# Altium schematic symbol library stm32l552_launchpad.SCHLIB: 95 symbols (part 1 of 2)
Pins are listed as number, name and electrical type; pins without a type are passive.

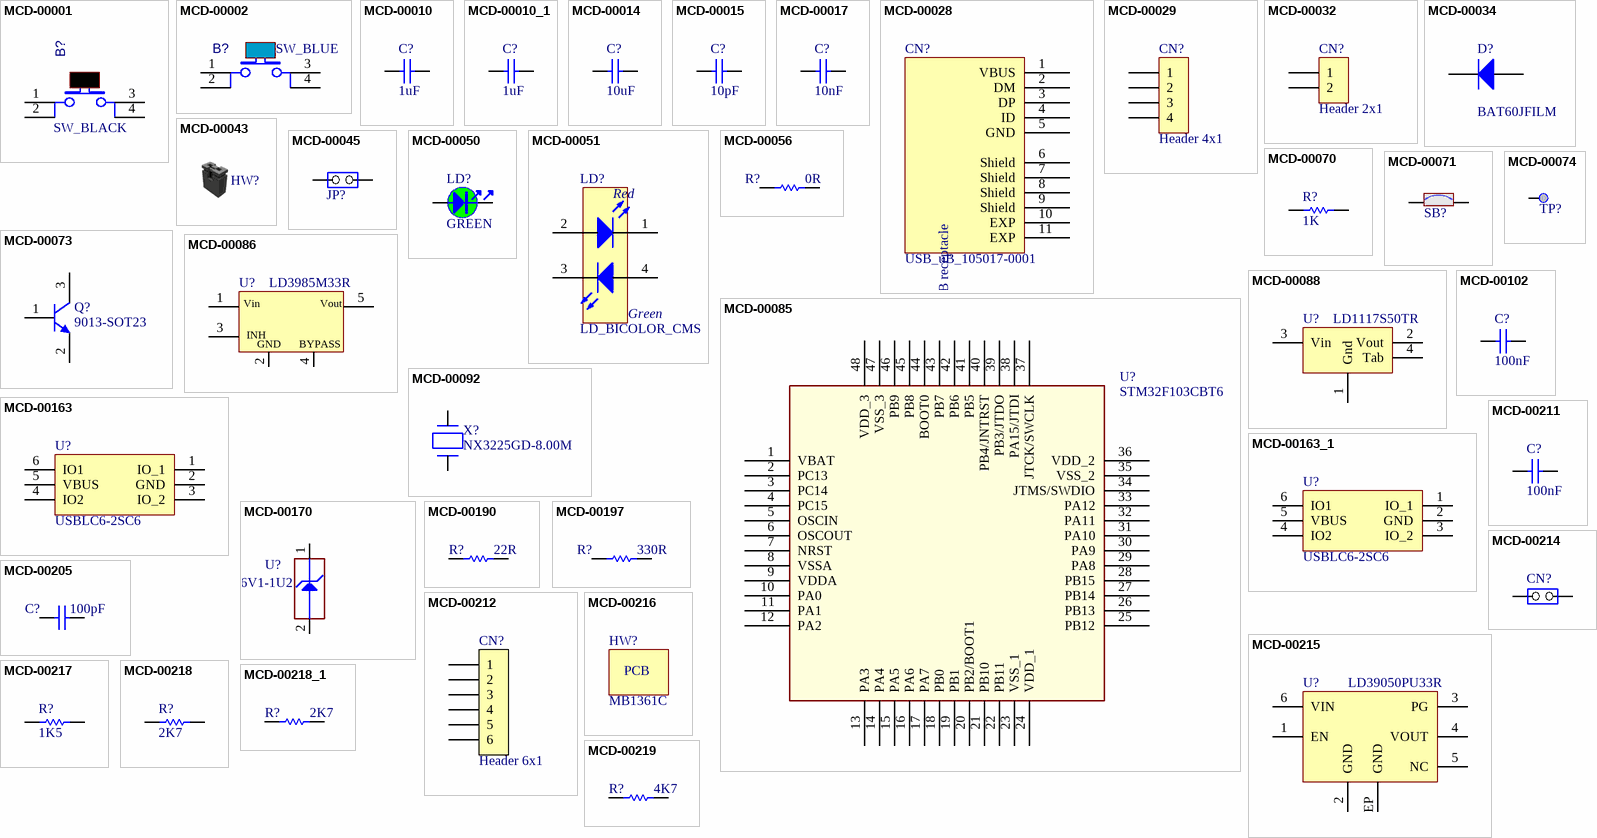
[diagram p0: symbols MCD-00001 to MCD-00219]

## MCD-00001
designator B?  value SW_BLACK
Non-Open Push-Button 0.1A 24V BLACK; Internal_Part_Number: MCD-00001; Manufacturer_Part_Number: TD0341X-G01-BLA; Manufacturer: WEALTHMETAL; Part_Type: Misc; Provided_By: Subcon; Initial_Board_Reference: MB1274; ECCN_US: n/a; ECCN_EU: n/a; ComponentLink1Description: Datasheet; Status: Released; ComponentLink1URL: http://tunmcdsvn.tun.st.com/Component_Datasheet_Library/Trunk/Misc/Wealthmetal_Tact-Switch_TD0341; Order_Code_Farnell: 535-930
footprint SWI_WEALTHMETAL_TD-0341_4P_BLACK
pins: 1, 2, 3, 4

## MCD-00002
designator B?  value SW_BLUE
Non-Open Push-Button 0.1A 24V BLUE; Internal_Part_Number: MCD-00002; Manufacturer_Part_Number: TD0341X-G01-BLU; Manufacturer: WEALTHMETAL; Part_Type: Misc; Provided_By: Subcon; Initial_Board_Reference: MB1274; ECCN_US: n/a; ECCN_EU: n/a; ComponentLink1Description: Datasheet; Status: Released; ComponentLink1URL: http://tunmcdsvn.tun.st.com/Component_Datasheet_Library/Trunk/Misc/Wealthmetal_Tact-Switch_TD0341; Order_Code_Farnell: 535-930
footprint SWI_WEALTHMETAL_TD-0341_4P_BLUE
pins: 1, 2, 3, 4

## MCD-00010
designator C?, comment value 1uF  (hidden comment: Capacitor)
Capacitor, MLCC, 1uF, 16V, X5R, 10%, 0603, T=0,8mm; Internal_Part_Number: MCD-00010; Manufacturer_Part_Number: CC0603KRX5R7BB105; Manufacturer: YAGEO; Provided_By: SUBCO; Status: Released; Part_Type: Capacitor; Package: C0603; ComponentLink1Description: Datasheet; ComponentLink1URL: http://tunmcdsvn.tun.st.com/Component_Datasheet_Library/Trunk/Capacitors/Yageo_Multilayer_capacitor_X5R_series_100pF_to_100uF
footprint C0603
pins: 1, 2

## MCD-00010_1
designator C?  value 1uF
Capacitor, MLCC, 1uF, 16V, X5R, 10%, 0603, T=0,8mm; Internal_Part_Number: MCD-00010; Manufacturer_Part_Number: CC0603KRX5R7BB105; Manufacturer: YAGEO; Provided_By: Subcon; Initial_Board_Reference: MB1274; ECCN_US: n/a; ECCN_EU: n/a; ComponentLink1Description: Datasheet; Status: Released; Part_Type: Capacitor; Package: C0603; ComponentLink1URL: http://tunmcdsvn.tun.st.com/Component_Datasheet_Library/Trunk/Capacitors/Yageo_Multilayer_capacitor_X5R_series_100pF_to_100uF
footprint C0603
pins: 1, 2

## MCD-00014
designator C?  value 10uF
Capacitor, MLCC, 10uF, 25V, X5R, 10%, 0805, T=0,85mm; Internal_Part_Number: MCD-00014; Manufacturer_Part_Number: CC0805KRX5R8BB106; Manufacturer: YAGEO; Provided_By: Subcon; Initial_Board_Reference: MB1274; ECCN_US: n/a; ECCN_EU: n/a; ComponentLink1Description: Datasheet; Status: Released; Part_Type: Capacitor; Package: C0805; ComponentLink1URL: http://tunmcdsvn.tun.st.com/Component_Datasheet_Library/Trunk/Capacitors/Yageo_Multilayer_capacitor_X5R_series_100pF_to_100uF
footprint C0805
pins: 1, 2

## MCD-00015
designator C?  value 10pF
Capacitor, MLCC, 10pF, 50V, NPO, 5%, 0402, T=0,5mm; Internal_Part_Number: MCD-00015; Manufacturer_Part_Number: CC0402JRNPO9BN100; Manufacturer: YAGEO; Provided_By: subcon; Initial_Board_Reference: MB1274; ECCN_US: n/a; ECCN_EU: n/a; ComponentLink1Description: Datasheet; Status: Released; Part_Type: Capacitor; Package: C0402; ComponentLink1URL: http://tunmcdsvn.tun.st.com/Component_Datasheet_Library/Trunk/Capacitors/Yageo_Capacitor_NP0_16V-to-50V
footprint C0402
pins: 1, 2

## MCD-00017
designator C?  value 10nF
Capacitor, MLCC, 10nF, 50V, X7R, 10%, 0603, T=0.8mm; Internal_Part_Number: MCD-00017; Manufacturer_Part_Number: CC0603KRX7R9BB103; Manufacturer: YAGEO; Provided_By: Subcon; Initial_Board_Reference: MB1274; ECCN_US: n/a; ECCN_EU: n/a; ComponentLink1Description: Datasheet; Status: Released; Part_Type: Capacitor; Package: C0603; ComponentLink1URL: http://tunmcdsvn.tun.st.com/Component_Datasheet_Library/Trunk/Capacitors/Yageo_Multilayer_Capacitor_X7R_series_100pF_to_22uF
footprint C0603
pins: 1, 2

## MCD-00028
designator CN?  value USB_uB_105017-0001
USB-MICRO-B, 0.65mm, RA, SMT, Bottom Mount,; Internal_Part_Number: MCD-00028; Manufacturer_Part_Number: 1050170001; Manufacturer: MOLEX; Part_Type: Connector; Provided_By: Subcon; Initial_Board_Reference: MB1274; ECCN_US: n/a; ECCN_EU: n/a; ComponentLink1Description: Datasheet; Status: Released; ComponentLink1URL: http://tunmcdsvn.tun.st.com/Component_Datasheet_Library/Trunk/Connectors/Molex_Connector-USB-microB_105017-0001
footprint CON_USBMICROB_MOLEX_105017-0001_H2P90
pins: 1 VBUS, 2 DM, 3 DP, 4 ID, 5 GND, 6 Shield, 7 Shield, 8 Shield, 9 Shield, 10 EXP, 11 EXP
text: USB_Micro-B receptacle

## MCD-00029
designator CN?, comment Header 4x1
Header, 4x1, 2,54mm, VR, TH, Height 5.84mm/2.54mm; Internal_Part_Number: MCD-00029; Part_Type: Connector; Manufacturer_Part_Number: TSW-104-07-x-S; Manufacturer: SAMTEC; Provided_By: SUBCO; Initial_Board_Reference: MB1274; Path: ws/MCD_ApplicationBoards/Lists/MCDPARTSdatabase; Item Type: Item; Value: Header 4x1; Status: Released; ComponentLink1Description: Datasheet; ComponentLink1URL: http://tunmcdsvn.tun.st.com/Component_Datasheet_Library/Trunk/Connectors/Samtec_TSW-HTSW-series
footprint CON_SAMTEC_TSW-104-07-G-S
pins: 1, 2, 3, 4

## MCD-00032
designator CN?  value Header 2x1
Header, 2x1, 2,54mm, VR, TH, Height 5.84mm/2.54mm; Internal_Part_Number: MCD-00032; Manufacturer_Part_Number: TSW-102-07-x-S; Manufacturer: SAMTEC; Part_Type: Connector; Provided_By: Subcon; Initial_Board_Reference: MB1274; ECCN_US: n/a; ECCN_EU: n/a; ComponentLink1Description: Datasheet; Status: Released; ComponentLink1URL: http://tunmcdsvn.tun.st.com/Component_Datasheet_Library/Trunk/Connectors/Samtec_TSW-HTSW-series
footprint CON_SAMTEC_TSW-102-07-G-S
pins: 1, 2

## MCD-00034
designator D?  value BAT60JFILM
BAT60JFILM; Internal_Part_Number: MCD-00034; Manufacturer: STMICROELECTRONICS; Part_Type: Diode; ECCN_US: EAR99; ECCN_EU: NEC; Provided_By: Subcon; Initial_Board_Reference: MB1274; Manufacturer_Part_Number: BAT60JFILM; ComponentLink1Description: Datasheet; Status: Released; ComponentLink1URL: http://tunmcdsvn.tun.st.com/Component_Datasheet_Library/Trunk/Diodes/STM_Diode_BAT60JFILM-SOD323
footprint DIO_SOD323
pins: 1 A, 2 K

## MCD-00043
designator HW?  (mechanical)
SHUNT 2.54mm BLACK; Internal_Part_Number: MCD-00043; Manufacturer_Part_Number: SNT-100-BK-G; Manufacturer: SAMTEC; Part_Type: Mechanical; Provided_By: Subcon; Initial_Board_Reference: MB1274; ECCN_US: n/a; ECCN_EU: n/a; ComponentLink1Description: Datasheet; Status: Released; ComponentLink1URL: http://tunmcdsvn.tun.st.com/Component_Datasheet_Library/Trunk/Connectors/Samtec_Shunt_Jumper_SNT100

## MCD-00045
designator JP?
Header, 2x1, 2,54mm, VR, TH, Height 5.84mm/2.54mm; Internal_Part_Number: MCD-00045; Manufacturer_Part_Number: TSW-102-07-x-S; Manufacturer: SAMTEC; Part_Type: Connector; Value: Shunt not fitted; Provided_By: Subcon; Initial_Board_Reference: MB1274; Remark: 3D KO: BZ: 40098; ECCN_US: n/a; ECCN_EU: n/a; ComponentLink1Description: Datasheet; Status: Footprint available; ComponentLink1URL: http://tunmcdsvn.tun.st.com/Component_Datasheet_Library/Trunk/Connectors/Samtec_TSW-HTSW-series
footprint CON_SAMTEC_TSW-102-07-G-S
pins: 1 COMMON, 2 NO

## MCD-00050
designator LD?  value GREEN
LED, Green, 0603; Internal_Part_Number: MCD-00050; Part_Type: Display; Manufacturer_Part_Number: 19-213SYGC/S530-E2/TR8; Manufacturer: EVERLIGHT; ECCN_US: EAR99; ECCN_EU: NEC; Provided_By: Subcon; Initial_Board_Reference: MB1274; Status: Released; ComponentLink1Description: Datasheet; Package: LED 0603; ComponentLink1URL: http://tunmcdsvn.tun.st.com/Component_Datasheet_Library/Trunk/Display/Everlight_SMD-LED-GREEN_19-213SYGC-S530-XX-TR8-v3.doc
footprint LED_0603_GREEN
pins: 1, 2
2 alternate drawings of the same symbol

## MCD-00051
designator LD?  value LD_BICOLOR_CMS
LED Bicolor; Internal_Part_Number: MCD-00051; Manufacturer_Part_Number: HSMF-A201-A00J1; Manufacturer: AVAGO TECHNOLOGIES; Alternate_Manufacturer_Part_Number: LE-RGW35280; Alternate_Manufacturer: EVERLUCK; Part_Type: Display; ECCN_US: EAR99; ECCN_EU: NEC; Provided_By: Subcon; Initial_Board_Reference: MB1274; ComponentLink1Description: Datasheet; Status: Released; ComponentLink1URL: http://tunmcdsvn.tun.st.com/Component_Datasheet_Library/Trunk/Display/Avago_LED-SMC_HSMx-A2xx-02Feb2012
footprint LED_BI-GR_HSMF-A201-A00J1
pins: 1 RED_cathode, 2 Red_anode, 3 YellowGreen_cathode, 4 YellowGreen_anode
text: Red; Green

## MCD-00056
designator R?  value 0R
Resistor,0R,0603,5%,1/10W; Internal_Part_Number: MCD-00056; Manufacturer_Part_Number: RC0603JR-070RL; Manufacturer: YAGEO; Provided_By: subcon; Initial_Board_Reference: MB1274; ECCN_US: n/a; ECCN_EU: n/a; ComponentLink1Description: Datasheet; Status: Released; Part_Type: Resistor; Package: R0603; ComponentLink1URL: http://tunmcdsvn.tun.st.com/Component_Datasheet_Library/Trunk/Resistors/Yageo_Resistor_RC0603-series
footprint R0603
pins: 1, 2

## MCD-00070
designator R?  value 1K
Resistor,1K,0603,1%,1/10W; Internal_Part_Number: MCD-00070; Manufacturer_Part_Number: RC0603FR-071KL; Manufacturer: YAGEO; Provided_By: Subcon; Initial_Board_Reference: MB1274; Status: Released; Part_Type: Resistor; ComponentLink1Description: Datasheet; ECCN_US: n/a; ECCN_EU: n/a; Package: R0603; ComponentLink1URL: http://tunmcdsvn.tun.st.com/Component_Datasheet_Library/Trunk/Resistors/Yageo_Resistor_RC0603-series
footprint R0603
pins: 1, 2

## MCD-00071
designator SB?
Solder Bridge ON; Internal_Part_Number: MCD-00071; Part_Type: Mechanical; Provided_By: Subcon; Initial_Board_Reference: MB1274; ECCN_US: n/a; ECCN_EU: n/a; Status: Released; ComponentLink1Description: Datasheet
footprint SOLDER-BRIDGE_R0603-0R
pins: 1, 2

## MCD-00073
designator Q?  value 9013-SOT23
NPN Bipolar Transistor; Internal_Part_Number: MCD-00073; Part_Type: IC; Manufacturer_Part_Number: BSR14; Manufacturer: NXP; ECCN_US: EAR99; ECCN_EU: NEC; Provided_By: Subcon; Initial_Board_Reference: MB1274; Revision: *; Status: Released; ComponentLink1Description: Datasheet; ComponentLink1URL: http://tunmcdsvn.tun.st.com/Component_Datasheet_Library/Trunk/IC/NXP_Transistor_BSR14
footprint NPN_SOT23
pins: 1 B, 2 E, 3 C

## MCD-00074
designator TP?  (no BOM)
Test Point 1mm; Internal_Part_Number: MCD-00074; Part_Type: Mechanical; Initial_Board_Reference: MB1274; Value: 1mm; Status: Released; Manufacturer_Part_Number: n/a; Manufacturer: n/a; ComponentLink1Description: Datasheet; ComponentLink1URL: http://na; ECCN_US: n/a; ECCN_EU: n/a; Provided_By: n/a
footprint TP_SMD_1MM
pins: 1

## MCD-00085
designator U?  value STM32F103CBT6
Medium-density performance line ARM-based 32-bit MCU with 128KB Flash; Internal_Part_Number: MCD-00085; Manufacturer: STMICROELECTRONICS; Part_Type: IC; ECCN_US: 3A991A2; ECCN_EU: NEC; Provided_By: Subcon; Initial_Board_Reference: MB1274; Manufacturer_Part_Number: STM32F103CBT6; ComponentLink1Description: Datasheet; Status: Released; ComponentLink1URL: http://tunmcdsvn.tun.st.com/Component_Datasheet_Library/Trunk/IC/STM_STM32F103CBT6
footprint ICC_LQFP48_7X7_P050
pins: 1 VBAT, 2 PC13, 3 PC14, 4 PC15, 5 OSCIN, 6 OSCOUT, 7 NRST, 8 VSSA, 9 VDDA, 10 PA0, 11 PA1, 12 PA2, 13 PA3, 14 PA4, 15 PA5, 16 PA6, 17 PA7, 18 PB0, 19 PB1, 20 PB2/BOOT1, 21 PB10, 22 PB11, 23 VSS_1, 24 VDD_1, 25 PB12, 26 PB13, 27 PB14, 28 PB15, 29 PA8, 30 PA9, 31 PA10, 32 PA11, 33 PA12, 34 JTMS/SWDIO, 35 VSS_2, 36 VDD_2, 37 JTCK/SWCLK, 38 PA15/JTDI, 39 PB3/JTDO, 40 PB4/JNTRST, 41 PB5, 42 PB6, 43 PB7, 44 BOOT0, 45 PB8, 46 PB9, 47 VSS_3, 48 VDD_3

## MCD-00086
designator U?  value LD3985M33R
Ultra low drop-low noise BiCMOS voltage, regulators low ESR capacitors compatible; Internal_Part_Number: MCD-00086; Manufacturer: STMICROELECTRONICS; Part_Type: IC; ECCN_US: EAR99; ECCN_EU: NEC; Provided_By: Subcon; Initial_Board_Reference: MB1274; Manufacturer_Part_Number: LD3985M33R; ComponentLink1Description: Datasheet; Status: Released; ComponentLink1URL: http://tunmcdsvn.tun.st.com/Component_Datasheet_Library/Trunk/IC/STM_LDO_LD3985
footprint REG_SOT23-5L
pins: 1 Vin, 2 GND, 3 CE, 4 BYPASS, 5 Vout
text: INH

## MCD-00088
designator U?  value LD1117S50TR
IC REG LDO 5V 0.8A SOT223; Internal_Part_Number: MCD-00088; Manufacturer: STMICROELECTRONICS; ECCN_US: EAR99; ECCN_EU: NEC; Provided_By: Subcon; Initial_Board_Reference: MB1274; Manufacturer_Part_Number: LD1117S50TR; ComponentLink1Description: Datasheet; Status: Released; Part_Type: IC; ComponentLink1URL: http://tunmcdsvn.tun.st.com/Component_Datasheet_Library/Trunk/IC/STM_LDO_LD1117; Package: SOT-223
footprint REG_SOT223-TAB
pins: 1 Gnd, 2 Vout, 3 Vin, 4 Tab

## MCD-00092
designator X?  value NX3225GD-8.00M
Crystal 8Mhz, 8pF, -+50PPM, SMD; Internal_Part_Number: MCD-00092; Manufacturer_Part_Number: NX3225GD 8MHz EXS00A-CG04874; Manufacturer: NDK; Part_Type: Crystal_Osc; ECCN_US: EAR99; ECCN_EU: NEC; Provided_By: STM; Initial_Board_Reference: MB1274; ComponentLink1Description: Datasheet; Status: Released; ComponentLink1URL: http://tunmcdsvn.tun.st.com/Component_Datasheet_Library/Trunk/Crystal_Osc/NDK_Crystal-For-ST_NX3225GD 8MHz EXS00A-CG04874 (EXS10B-20725)
footprint CRY_NX3225GD_2P
pins: 1 X1, 2 X2

## MCD-00102
designator C?, comment value 100nF  (hidden comment: Capacitor)
Capacitor, MLCC, 100nF, 16V, X7R, 10%, 0402, T=0,5mm; Internal_Part_Number: MCD-00102; Manufacturer_Part_Number: CC0402KRX7R7BB104; Manufacturer: YAGEO; Alternate_Manufacturer_Part_Number: GCM155R71C104KA55D; Alternate_Manufacturer: MURATA; Provided_By: SUBCO; Status: Released; Part_Type: Capacitor; Package: C0402; ComponentLink1Description: Datasheet; ComponentLink1URL: http://tunmcdsvn.tun.st.com/Component_Datasheet_Library/Trunk/Capacitors/Yageo_Multilayer_Capacitor_X7R_series_100pF_to_22uF
footprint C0402
pins: 1, 2

## MCD-00163
designator U?, comment USBLC6-2SC6
Very low capacitance ESD protection; Internal_Part_Number: MCD-00163; Part_Type: IC; Manufacturer: STMICROELECTRONICS; BMS_Part_Number: 9151075; ECCN_US: EAR99; ECCN_EU: NEC; Provided_By: SUBCO with ST control; Value: USBLC6-2SC6; Status: Released; Manufacturer_Part_Number: USBLC6-2SC6; ComponentLink1Description: Datasheet; ComponentLink1URL: http://tunmcdsvn.tun.st.com/Component_Datasheet_Library/Trunk/Diodes/STM_ESD_USBLC6-2
footprint ESD_SOT23-6L
pins: 1 IO_1, 2 GND, 3 IO_2, 4 IO2, 5 VBUS, 6 IO1

## MCD-00163_1
designator U?  value USBLC6-2SC6
Very low capacitance ESD protection; Internal_Part_Number: MCD-00163; Part_Type: IC; Manufacturer: STMICROELECTRONICS; ECCN_US: EAR99; ECCN_EU: NEC; Provided_By: Subcon; Initial_Board_Reference: MB1263; Status: Released; Manufacturer_Part_Number: USBLC6-2SC6; ComponentLink1Description: Datasheet; ComponentLink1URL: http://tunmcdsvn.tun.st.com/Component_Datasheet_Library/Trunk/Diodes/STM_ESD_USBLC6-2
footprint ESD_SOT23-6L
pins: 1 IO_1, 2 GND, 3 IO_2, 4 IO2, 5 VBUS, 6 IO1

## MCD-00170
designator U?  value ESDALC6V1-1U2
ESD protection 6V1; Internal_Part_Number: MCD-00170; Part_Type: Diode; Manufacturer: STMICROELECTRONICS; ECCN_US: EAR99; ECCN_EU: NEC; Provided_By: Subcon; Initial_Board_Reference: MB1274; Status: Released; Manufacturer_Part_Number: ESDALC6V1-1U2; ComponentLink1Description: Datasheet; ComponentLink1URL: http://tunmcdsvn.tun.st.com/Component_Datasheet_Library/Trunk/Diodes/STM_ESD_ESDALC6V1-1U2
footprint ESD_ST0201
pins: 1 IO1, 2 GND

## MCD-00190
designator R?  value 22R
Resistor,22R,0603,1%,1/10W; Internal_Part_Number: MCD-00190; Manufacturer_Part_Number: RC0603FR-0722RL; Manufacturer: YAGEO; Provided_By: Subcon; ComponentLink1Description: Datasheet; ECCN_US: n/a; ECCN_EU: n/a; Status: Released; Part_Type: Resistor; Package: R0603; ComponentLink1URL: http://tunmcdsvn.tun.st.com/Component_Datasheet_Library/Trunk/Resistors/Yageo_Resistor_RC0603-series
footprint R0603
pins: 1, 2

## MCD-00197
designator R?  value 330R
Resistor,330R,0603,1%,1/10W; Internal_Part_Number: MCD-00197; Manufacturer_Part_Number: RC0603FR-07330RL; Manufacturer: YAGEO; Provided_By: Subcon; Status: Released; Part_Type: Resistor; Package: R0603; ComponentLink1Description: Datasheet; ComponentLink1URL: http://tunmcdsvn.tun.st.com/Component_Datasheet_Library/Trunk/Resistors/Yageo_Resistor_RC0603-series; ECCN_US: n/a; ECCN_EU: n/a
footprint R0603
pins: 1, 2

## MCD-00205
designator C?  value 100pF
Capacitor, MLCC, 100pF, 50V, NPO, 5%, 0402, T=0,5mm; Internal_Part_Number: MCD-00205; Manufacturer_Part_Number: CC0402JRNPO9BN101; Manufacturer: YAGEO; Provided_By: Subcon; Initial_Board_Reference: MB1361; Status: Released; Part_Type: Capacitor; Package: C0402; ComponentLink1Description: Datasheet; ComponentLink1URL: http://tunmcdsvn.tun.st.com/Component_Datasheet_Library/Trunk/Capacitors/Yageo_Capacitor_NP0_16V-to-50V; ECCN_US: n/a; ECCN_EU: n/a
footprint C0402
pins: 1, 2

## MCD-00211
designator C?  value 100nF
Capacitor, MLCC, 100nF, 16V, X7R, 10%, 0603, T=0,8mm; Internal_Part_Number: MCD-00211; Manufacturer_Part_Number: CC0603KRX7R7BB104; Manufacturer: YAGEO; Provided_By: Subcon; Initial_Board_Reference: MB1319; ECCN_US: n/a; ECCN_EU: n/a; ComponentLink1Description: Datasheet; Status: Released; Part_Type: Capacitor; Package: C0603; ComponentLink1URL: http://tunmcdsvn.tun.st.com/Component_Datasheet_Library/Trunk/Capacitors/Yageo_Multilayer_Capacitor_X7R_series_100pF_to_22uF
footprint C0603
pins: 1, 2

## MCD-00212
designator CN?  value Header 6x1
Header, 6x1, 2,54mm, VR, TH, Height 5.84mm/2.54mm; Internal_Part_Number: MCD-00212; Manufacturer_Part_Number: TSW-106-07-x-S; Manufacturer: SAMTEC; Part_Type: Connector; Provided_By: Subcon; Initial_Board_Reference: MB1319; ECCN_US: n/a; ECCN_EU: n/a; ComponentLink1Description: Datasheet; Status: Released; ComponentLink1URL: http://tunmcdsvn.tun.st.com/Component_Datasheet_Library/Trunk/Connectors/Samtec_TSW-HTSW-series
footprint CON_SAMTEC_TSW-106-07-X-S
pins: 1, 2, 3, 4, 5, 6

## MCD-00214
designator CN?
Header, 2x1, 2,54mm, VR, TH, Height 5.84mm/10.16mm; Internal_Part_Number: MCD-00214; Manufacturer_Part_Number: TSW-102-09-x-S; Manufacturer: SAMTEC; Part_Type: Connector; Value: Header 2x1 16mm; Provided_By: Subcon; Initial_Board_Reference: MB1319; ECCN_US: n/a; ECCN_EU: n/a; ComponentLink1Description: Datasheet; Status: Released; ComponentLink1URL: http://tunmcdsvn.tun.st.com/Component_Datasheet_Library/Trunk/Connectors/Samtec_TSW-HTSW-series
footprint CON_SAMTEC_TSW-102-09-X-S
pins: 1 COMMON, 2 NO

## MCD-00215
designator U?  value LD39050PU33R
Low quiescent current and low noise voltage regulators; Internal_Part_Number: MCD-00215; Manufacturer: STMICROELECTRONICS; Part_Type: IC; ECCN_US: EAR99; ECCN_EU: NEC; Provided_By: Subcon; Initial_Board_Reference: MB1319; Manufacturer_Part_Number: LD39050PU33R; Status: Released; ComponentLink1Description: Datasheet; ComponentLink1URL: http://tunmcdsvn.tun.st.com/Component_Datasheet_Library/Trunk/IC/STM_LDO_LD39050PU; Package: DFN6 3x3mm
footprint ICC_DFN6-EPAD_3X3_P095
pins: 1 EN, 2 GND, 3 PG, 4 VOUT, 5 NC, 6 VIN, EP GND

## MCD-00216
designator HW?  value MB1361C  (mechanical)
PCB, xxxx for PCB ref, Y for revision; Internal_Part_Number: MCD-00216; Part_Type: Mechanical; Provided_By: Subcon; Initial_Board_Reference: MB1319; Status: Released; ECCN_US: n/a; ECCN_EU: n/a; ComponentLink1Description: Datasheet
text: PCB

## MCD-00217
designator R?  value 1K5
Resistor,1K5,0603,1%,1/10W; Internal_Part_Number: MCD-00217; Manufacturer_Part_Number: RC0603FR-071K5L; Manufacturer: YAGEO; Provided_By: Subcon; Initial_Board_Reference: MB1319; ECCN_US: n/a; ECCN_EU: n/a; ComponentLink1Description: Datasheet; Status: Released; Part_Type: Resistor; Package: R0603; ComponentLink1URL: http://tunmcdsvn.tun.st.com/Component_Datasheet_Library/Trunk/Resistors/Yageo_Resistor_RC0603-series
footprint R0603
pins: 1, 2

## MCD-00218
designator R?, comment value 2K7  (hidden comment: Resistor)
Resistor,2K7,0603,1%,1/10W; Internal_Part_Number: MCD-00218; Manufacturer_Part_Number: RC0603FR-072K7L; Manufacturer: YAGEO; BMS_Part_Number: 9129767; ECCN_US: EAR99; ECCN_EU: NEC; Provided_By: SUBCO; Status: Released; Part_Type: Resistor; Package: R0603; ComponentLink1Description: Datasheet; ComponentLink1URL: http://tunmcdsvn.tun.st.com/Component_Datasheet_Library/Trunk/Resistors/Yageo_Resistor_RC0603-series
footprint R0603
pins: 1, 2

## MCD-00218_1
designator R?  value 2K7
Resistor,2K7,0603,1%,1/10W; Internal_Part_Number: MCD-00218; Manufacturer_Part_Number: RC0603FR-072K7L; Manufacturer: YAGEO; Provided_By: Subcon; Initial_Board_Reference: MB1319; ECCN_US: n/a; ECCN_EU: n/a; ComponentLink1Description: Datasheet; Status: Released; Part_Type: Resistor; Package: R0603; ComponentLink1URL: http://tunmcdsvn.tun.st.com/Component_Datasheet_Library/Trunk/Resistors/Yageo_Resistor_RC0603-series
footprint R0603
pins: 1, 2

## MCD-00219
designator R?  value 4K7
Resistor,4K7,0603,1%,1/10W; Internal_Part_Number: MCD-00219; Manufacturer_Part_Number: RC0603FR-074K7L; Manufacturer: YAGEO; Provided_By: Subcon; Initial_Board_Reference: MB1319; ECCN_US: n/a; ECCN_EU: n/a; ComponentLink1Description: Datasheet; Status: Released; Part_Type: Resistor; Package: R0603; ComponentLink1URL: http://tunmcdsvn.tun.st.com/Component_Datasheet_Library/Trunk/Resistors/Yageo_Resistor_RC0603-series
footprint R0603
pins: 1, 2

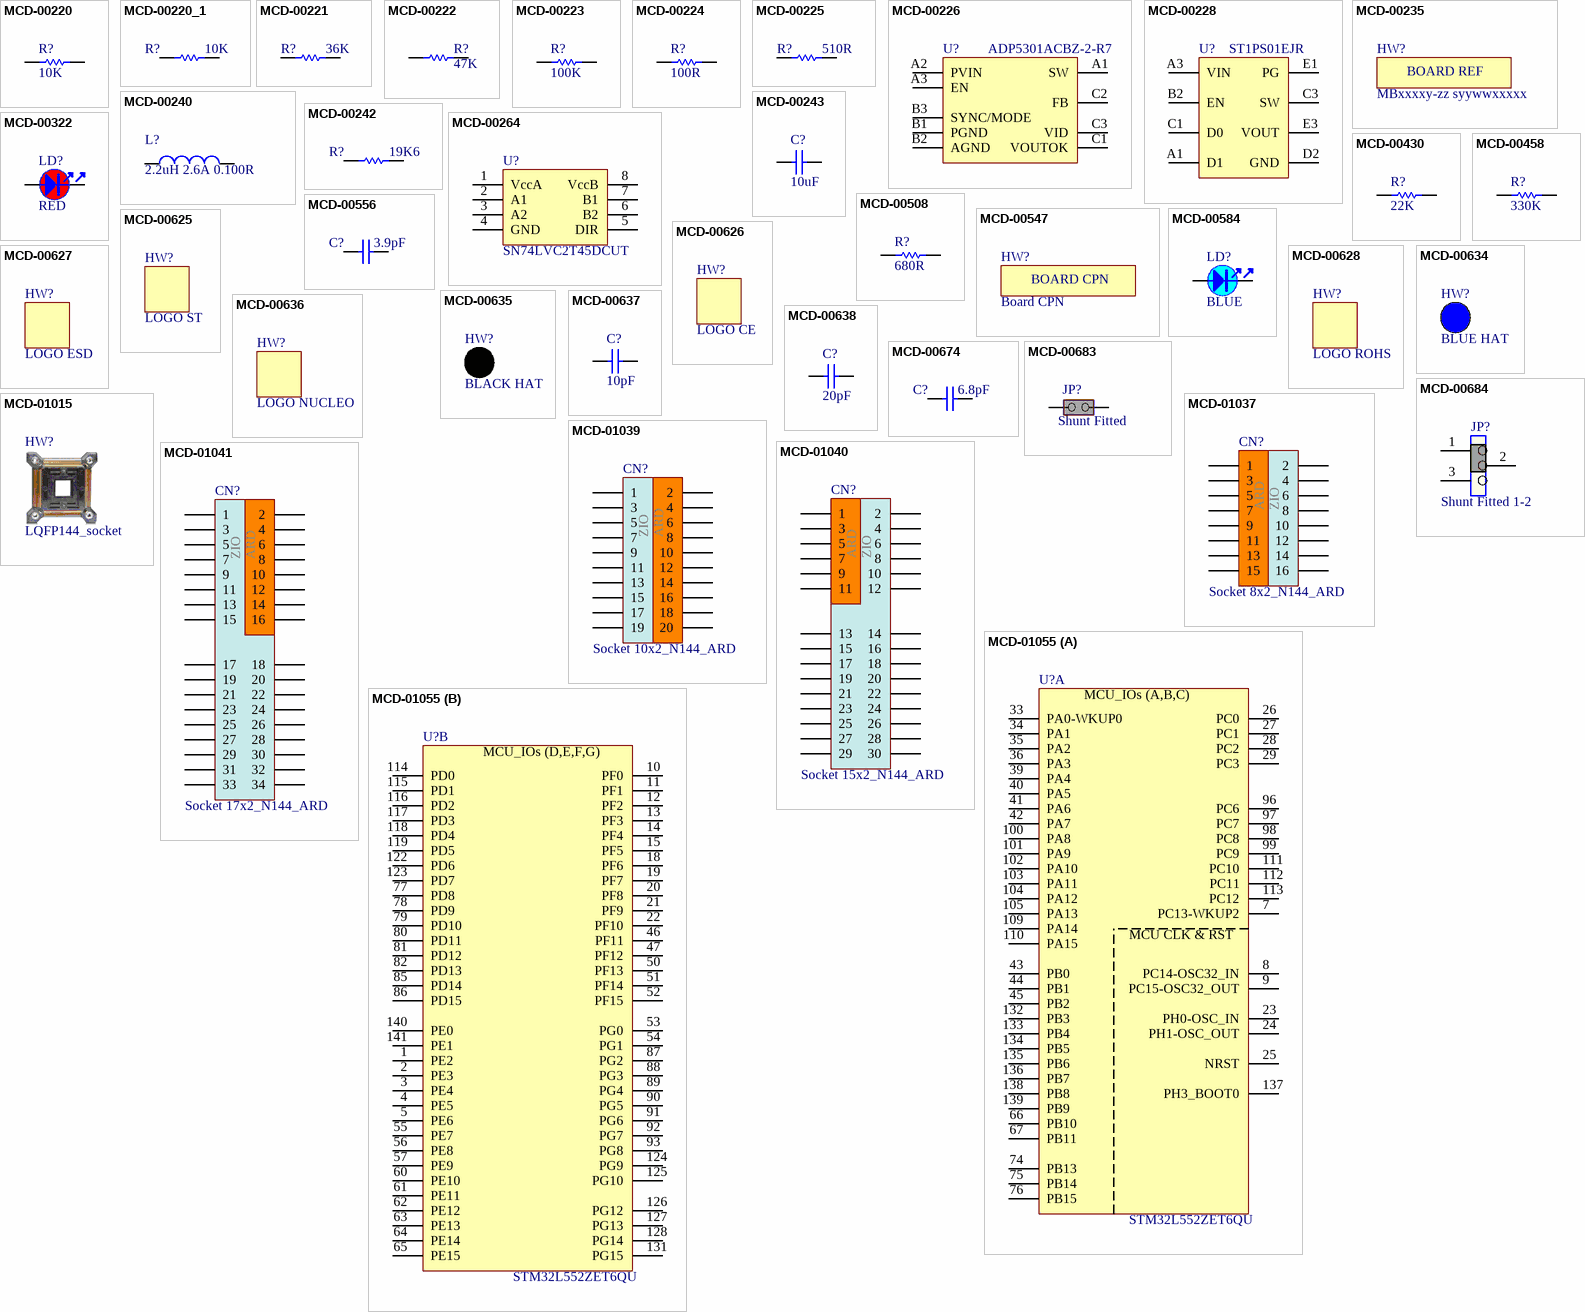
[diagram p1: symbols MCD-00220 to MCD-01055]

## MCD-00220
designator R?  value 10K
Resistor,10K,0603,1%,1/10W; Internal_Part_Number: MCD-00220; Manufacturer_Part_Number: RC0603FR-0710KL; Manufacturer: YAGEO; Provided_By: Subcon; Initial_Board_Reference: MB1319; Status: Released; Part_Type: Resistor; ComponentLink1Description: Datasheet; ECCN_US: n/a; ECCN_EU: n/a; Package: R0603; ComponentLink1URL: http://tunmcdsvn.tun.st.com/Component_Datasheet_Library/Trunk/Resistors/Yageo_Resistor_RC0603-series
footprint R0603
pins: 1, 2

## MCD-00220_1
designator R?, comment value 10K  (hidden comment: Resistor)
Resistor,10K,0603,1%,1/10W; Internal_Part_Number: MCD-00220; Manufacturer_Part_Number: RC0603FR-0710KL; Manufacturer: YAGEO; ECCN_US: EAR99; ECCN_EU: NEC; Provided_By: SUBCO; Status: Released; Part_Type: Resistor; Package: R0603; ComponentLink1Description: Datasheet; ComponentLink1URL: http://tunmcdsvn.tun.st.com/Component_Datasheet_Library/Trunk/Resistors/Yageo_Resistor_RC0603-series
footprint R0603
pins: 1, 2

## MCD-00221
designator R?  value 36K
Resistor,36K,0603,1%,1/10W; Internal_Part_Number: MCD-00221; Manufacturer_Part_Number: RC0603FR-0736KL; Manufacturer: YAGEO; Provided_By: Subcon; Initial_Board_Reference: MB1319; ECCN_US: n/a; ECCN_EU: n/a; ComponentLink1Description: Datasheet; Status: Released; Part_Type: Resistor; Package: R0603; ComponentLink1URL: http://tunmcdsvn.tun.st.com/Component_Datasheet_Library/Trunk/Resistors/Yageo_Resistor_RC0603-series
footprint R0603
pins: 1, 2

## MCD-00222
designator R?  value 47K
Resistor,47K,0603,1%,1/10W; Internal_Part_Number: MCD-00222; Manufacturer_Part_Number: RC0603FR-0747KL; Manufacturer: YAGEO; Provided_By: Subcon; Initial_Board_Reference: MB1319; Status: Released; Part_Type: Resistor; ComponentLink1Description: Datasheet; ECCN_US: n/a; ECCN_EU: n/a; Package: R0603; ComponentLink1URL: http://tunmcdsvn.tun.st.com/Component_Datasheet_Library/Trunk/Resistors/Yageo_Resistor_RC0603-series
footprint R0603
pins: 1, 2

## MCD-00223
designator R?  value 100K
Resistor,100K,0603,1%,1/10W; Internal_Part_Number: MCD-00223; Manufacturer_Part_Number: RC0603FR-07100KL; Manufacturer: YAGEO; Provided_By: Subcon; Initial_Board_Reference: MB1319; ECCN_US: n/a; ECCN_EU: n/a; ComponentLink1Description: Datasheet; Status: Released; Part_Type: Resistor; Package: R0603; ComponentLink1URL: http://tunmcdsvn.tun.st.com/Component_Datasheet_Library/Trunk/Resistors/Yageo_Resistor_RC0603-series
footprint R0603
pins: 1, 2

## MCD-00224
designator R?  value 100R
Resistor,100R,0603,1%,1/10W; Internal_Part_Number: MCD-00224; Manufacturer_Part_Number: RC0603FR-07100RL; Manufacturer: YAGEO; Provided_By: Subcon; Initial_Board_Reference: MB1319; ECCN_US: n/a; ECCN_EU: n/a; ComponentLink1Description: Datasheet; Status: Released; Part_Type: Resistor; Package: R0603; ComponentLink1URL: http://tunmcdsvn.tun.st.com/Component_Datasheet_Library/Trunk/Resistors/Yageo_Resistor_RC0603-series
footprint R0603
pins: 1, 2

## MCD-00225
designator R?  value 510R
Resistor,510R,0603,1%,1/10W; Internal_Part_Number: MCD-00225; Manufacturer_Part_Number: RC0603FR-07510RL; Manufacturer: YAGEO; Provided_By: Subcon; Initial_Board_Reference: MB1319; Status: Released; Part_Type: Resistor; ComponentLink1Description: Datasheet; ECCN_US: n/a; ECCN_EU: n/a; Package: R0603; ComponentLink1URL: http://tunmcdsvn.tun.st.com/Component_Datasheet_Library/Trunk/Resistors/Yageo_Resistor_RC0603-series
footprint R0603
pins: 1, 2

## MCD-00226
designator U?  value ADP5301ACBZ-2-R7
UL Step down regulator: Opt0; Internal_Part_Number: MCD-00226; Manufacturer: ANALOG DEVICES; Part_Type: IC; ECCN_US: EAR99; ECCN_EU: NEC; Provided_By: Subcon; Initial_Board_Reference: MB1319; Manufacturer_Part_Number: ADP5301ACBZ-2-R7; ComponentLink1Description: Datasheet; Status: Released; ComponentLink1URL: http://tunmcdsvn.tun.st.com/Component_Datasheet_Library/Trunk/IC/AD_SMPS_ADP5301
footprint ICC_WLCSP9_1P65X1P87_P050
pins: A1 SW, A2 PVIN, A3 EN, B1 PGND, B2 AGND, B3 SYNC/MODE, C1 VOUTOK, C2 FB, C3 VID

## MCD-00228
designator U?  value ST1PS01EJR
400mA Nano-Quiescent Step down converter; Internal_Part_Number: MCD-00228; Manufacturer: STMICROELECTRONICS; Part_Type: IC; ECCN_US: EAR99; ECCN_EU: NEC; Provided_By: Subcon; Initial_Board_Reference: MB1319; Manufacturer_Part_Number: ST1PS01EJR; ComponentLink1Description: Datasheet; Status: Checked; ComponentLink1URL: http://tunmcdsvn.tun.st.com/Component_Datasheet_Library/Trunk/IC/STM_SMPS_ST1PS01_rel1.31
footprint ICC_FLIP-CHIP-BGA8_1P11X1P41_P040
pins: A1 D1, A3 VIN, B2 EN, C1 D0, C3 SW, D2 GND, E1 PG, E3 VOUT

## MCD-00235
designator HW?, comment value MBxxxxy-zz syywwxxxxx  (hidden comment: STICKER_BOARD_REF)  (no BOM)
Sticker to mention board reference + serial number; Internal_Part_Number: MCD-00235; Part_Type: Mechanical; Provided_By: SUBCO; Status: Released; Manufacturer_Part_Number: n/a; Manufacturer: n/a; ComponentLink1Description: Datasheet; ComponentLink1URL: n/a
footprint STICKER_25X9
text: BOARD REF

## MCD-00240
designator L?  value 2.2uH 2.6A 0.100R
FIXED IND 2.2UH 2.6A 100 mOHM 20% SMD; Internal_Part_Number: MCD-00240; Manufacturer_Part_Number: VLS252010HBX-2R2M-1; Manufacturer: TDK; Part_Type: Inductor; Provided_By: Subcon; Initial_Board_Reference: MB1319; ECCN_US: n/a; ECCN_EU: n/a; ComponentLink1Description: Datasheet; Status: Released; ComponentLink1URL: http://tunmcdsvn.tun.st.com/Component_Datasheet_Library/Trunk/Inductors/TDK_Inductor_VLS252010HBX-1
footprint IND_TDK_VLS252010HBX-1
pins: 1, 2

## MCD-00242
designator R?  value 19K6
Resistor,19K6,0603,1%,1/10W; Internal_Part_Number: MCD-00242; Manufacturer_Part_Number: RC0603FR-0719K6L; Manufacturer: YAGEO; Provided_By: Subcon; Initial_Board_Reference: MB1319; ECCN_US: n/a; ECCN_EU: n/a; ComponentLink1Description: Datasheet; Status: Released; Part_Type: Resistor; Package: R0603; ComponentLink1URL: http://tunmcdsvn.tun.st.com/Component_Datasheet_Library/Trunk/Resistors/Yageo_Resistor_RC0603-series
footprint R0603
pins: 1, 2

## MCD-00243
designator C?  value 10uF
Capacitor, MLCC, 10uF, 6V3, X5R, 10%, 0603, T=0,8mm; Internal_Part_Number: MCD-00243; Manufacturer_Part_Number: CC0603KRX5R5BB106; Manufacturer: YAGEO; Provided_By: Subcon; Initial_Board_Reference: MB1319; ECCN_US: n/a; ECCN_EU: n/a; ComponentLink1Description: Datasheet; Status: Released; Part_Type: Capacitor; Package: C0603; ComponentLink1URL: http://tunmcdsvn.tun.st.com/Component_Datasheet_Library/Trunk/Capacitors/Yageo_Multilayer_capacitor_X5R_series_100pF_to_100uF
footprint C0603
pins: 1, 2

## MCD-00264
designator U?  value SN74LVC2T45DCUT
Dual bit dual supply bus transceiver; Internal_Part_Number: MCD-00264; Part_Type: IC; Manufacturer: TEXAS INSTRUMENTS; ECCN_US: EAR99; ECCN_EU: NEC; Provided_By: Subcon; Initial_Board_Reference: MB1319; Status: Released; Manufacturer_Part_Number: SN74LVC2T45DCUT; ComponentLink1Description: Datasheet; ComponentLink1URL: http://tunmcdsvn.tun.st.com/Component_Datasheet_Library/Trunk/IC/TI_Dual_bit_tranceiver_SN74LVC2T45
footprint ICC_VSSOP8_DCU_R-PDSO-G8_2X2P30_P050
pins: 1 VccA (power), 2 A1, 3 A2, 4 GND (power), 5 DIR, 6 B2, 7 B1, 8 VccB (power)

## MCD-00322
designator LD?  value RED
LED, Red, 0603; Internal_Part_Number: MCD-00322; Part_Type: Display; Manufacturer_Part_Number: 19-217/R6C-AL1M2VY/3T; Manufacturer: EVERLIGHT; ECCN_US: EAR99; ECCN_EU: NEC; Provided_By: Subcon; Initial_Board_Reference: MB1311; Status: Released; Package: LED 0603; ComponentLink1Description: Datasheet; ComponentLink1URL: http://tunmcdsvn.tun.st.com/Component_Datasheet_Library/Trunk/Display/Everlight_SMD-LED-RED_19-213-R6C-AP1Q2B-3T-V3.doc
footprint LED_0603_RED_H0P4
pins: 1, 2
2 alternate drawings of the same symbol

## MCD-00430
designator R?  value 22K
Resistor,22K,0603,1%,1/10W; Internal_Part_Number: MCD-00430; Manufacturer_Part_Number: RC0603FR-0722KL; Manufacturer: YAGEO; Provided_By: Subcon; Status: Released; Part_Type: Resistor; ComponentLink1Description: Datasheet; ECCN_US: n/a; ECCN_EU: n/a; Package: R0603; ComponentLink1URL: http://tunmcdsvn.tun.st.com/Component_Datasheet_Library/Trunk/Resistors/Yageo_Resistor_RC0603-series
footprint R0603
pins: 1, 2

## MCD-00458
designator R?  value 330K
Resistor,330K,0603,1%,1/10W; Internal_Part_Number: MCD-00458; Manufacturer_Part_Number: RC0603FR-07330KL; Manufacturer: YAGEO; Provided_By: Subcon; Status: Released; Part_Type: Resistor; Package: R0603; ComponentLink1Description: Datasheet; ComponentLink1URL: http://tunmcdsvn.tun.st.com/Component_Datasheet_Library/Trunk/Resistors/Yageo_Resistor_RC0603-series; ECCN_US: n/a; ECCN_EU: n/a
footprint R0603
pins: 1, 2

## MCD-00508
designator R?  value 680R
Resistor,680R,0603,1%,1/10W; Internal_Part_Number: MCD-00508; Manufacturer_Part_Number: RC0603FR-07680RL; Manufacturer: YAGEO; Provided_By: Subcon; Status: Released; Part_Type: Resistor; ComponentLink1Description: Datasheet; ECCN_US: n/a; ECCN_EU: n/a; Package: R0603; ComponentLink1URL: http://tunmcdsvn.tun.st.com/Component_Datasheet_Library/Trunk/Resistors/Yageo_Resistor_RC0603-series
footprint R0603
pins: 1, 2

## MCD-00547
designator HW?, comment value Board CPN  (hidden comment: STICKER_BOARD_CPN)  (no BOM)
Sticker to mention board CPN code; Internal_Part_Number: MCD-00547; Part_Type: Mechanical; Provided_By: SUBCO; Status: Released; Manufacturer_Part_Number: n/a; Manufacturer: n/a; ComponentLink1Description: Datasheet; ComponentLink1URL: NA
footprint STICKER_25X9
text: BOARD CPN

## MCD-00556
designator C?, comment value 3.9pF  (hidden comment: Capacitor)
Capacitor, MLCC, 3.9pF, 50V, NPO, +-0.25pF, 0402, T=0,5mm; Internal_Part_Number: MCD-00556; Manufacturer_Part_Number: CC0402CRNPO9BN3R9; Manufacturer: YAGEO; ECCN_US: EAR99; ECCN_EU: NEC; Provided_By: SUBCO; Status: Released; Part_Type: Capacitor; Package: C0402; ComponentLink1Description: Datasheet; ComponentLink1URL: http://tunmcdsvn.tun.st.com/Component_Datasheet_Library/Trunk/Capacitors/Yageo_Capacitor_NP0_16V-to-50V
footprint C0402
pins: 1, 2

## MCD-00584
designator LD?  value BLUE
LED Blue, 0603 SMD, 3.3 V Forward Voltage; Internal_Part_Number: MCD-00584; Part_Type: Display; Manufacturer_Part_Number: VLMB1300-GS08; Manufacturer: VISHAY; Order_Code_RS: 7730430; Provided_By: Subcon; Initial_Board_Reference: MB1331; Status: Checked; ComponentLink1Description: Datasheet; ComponentLink1URL: http://tunmcdsvn.tun.st.com/Component_Datasheet_Library/Trunk/Display/VISHAY_LED_BLUE_VLMB1300-GS08; Order_Code_Digikey: VLMB1300-GS08CT-ND; Order_Code_Farnell: 2251459; Package: LED 0603; ECCN_US: n/a; ECCN_EU: n/a
footprint LED_0603_VISHAY_VLMB1300-GS08_BLUE_1A2K_H0P8
pins: 1, 2
2 alternate drawings of the same symbol

## MCD-00625
designator HW?  value LOGO ST  (no BOM)
STMicroelectronics logo footprint for PCB; Internal_Part_Number: MCD-00625; Part_Type: Mechanical; Initial_Board_Reference: MB1331; Status: Released; ECCN_US: n/a; ECCN_EU: n/a; Provided_By: n/a; Manufacturer_Part_Number: n/a; Manufacturer: n/a; ComponentLink1Description: Datasheet; ComponentLink1URL: http://na
footprint LOGO_ST

## MCD-00626
designator HW?  value LOGO CE  (no BOM)
CE logo footprint for PCB; Internal_Part_Number: MCD-00626; Part_Type: Mechanical; Initial_Board_Reference: MB1331; Status: Released; ECCN_US: n/a; ECCN_EU: n/a; Provided_By: n/a; ComponentLink1Description: Datasheet
footprint LOGO_CE

## MCD-00627
designator HW?  value LOGO ESD  (no BOM)
Hand ESD logo footprint for PCB; Internal_Part_Number: MCD-00627; Part_Type: Mechanical; Initial_Board_Reference: MB1331; Status: Released; ECCN_US: n/a; ECCN_EU: n/a; Provided_By: n/a; Manufacturer_Part_Number: n/a; Manufacturer: n/a; ComponentLink1Description: Datasheet; ComponentLink1URL: http://na
footprint LOGO_MAIN_1

## MCD-00628
designator HW?  value LOGO ROHS  (no BOM)
ROHS logo footprint for PCB; Internal_Part_Number: MCD-00628; Part_Type: Mechanical; Initial_Board_Reference: MB1331; Status: Released; ECCN_US: n/a; ECCN_EU: n/a; Provided_By: n/a; ComponentLink1Description: Datasheet
footprint LOGO_ROHS

## MCD-00634
designator HW?  value BLUE HAT  (mechanical)
Blue Hat for switch TD0341X-G01-BLU; Internal_Part_Number: MCD-00634; Part_Type: Mechanical; Manufacturer_Part_Number: 988.16.09.3.00002_SH-517; Manufacturer: JIUBABA; Provided_By: Subcon; Initial_Board_Reference: MB1319; Status: Released; ECCN_US: n/a; ECCN_EU: n/a; ComponentLink1Description: Datasheet; ComponentLink1URL: http://tunmcdsvn.tun.st.com/Component_Datasheet_Library/Trunk/Mechanical/Jiubaba_HAT_SH-517

## MCD-00635
designator HW?  value BLACK HAT  (mechanical)
Black Hat for switch TD0341X-G01-BLA; Internal_Part_Number: MCD-00635; Part_Type: Mechanical; Manufacturer_Part_Number: 988.16.09.3.00003_SH-517; Manufacturer: JIUBABA; Provided_By: Subcon; Initial_Board_Reference: MB1319; Status: Released; ECCN_US: n/a; ECCN_EU: n/a; ComponentLink1Description: Datasheet; ComponentLink1URL: http://tunmcdsvn.tun.st.com/Component_Datasheet_Library/Trunk/Mechanical/Jiubaba_HAT_SH-517

## MCD-00636
designator HW?  value LOGO NUCLEO  (no BOM)
NUCLEO logo footprint for PCB; Internal_Part_Number: MCD-00636; Part_Type: Mechanical; Initial_Board_Reference: MB1331; Status: Released; ECCN_US: n/a; ECCN_EU: n/a; Provided_By: n/a; ComponentLink1Description: Datasheet
footprint LOGO_NUCLEO

## MCD-00637
designator C?  value 10pF
Capacitor, MLCC, 10pF, 50V, NPO, 5%, 0603, T=0,8mm; Internal_Part_Number: MCD-00637; Manufacturer_Part_Number: CC0603JRNPO9BN100; Manufacturer: YAGEO; Provided_By: subcon; Initial_Board_Reference: MB1319; Status: Released; Part_Type: Capacitor; Package: C0603; ComponentLink1Description: Datasheet; ComponentLink1URL: http://tunmcdsvn.tun.st.com/Component_Datasheet_Library/Trunk/Capacitors/Yageo_Capacitor_NP0_16V-to-50V; ECCN_US: n/a; ECCN_EU: n/a
footprint C0603
pins: 1, 2

## MCD-00638
designator C?  value 20pF
Capacitor, MLCC, 20pF, 50V, NPO, 5%, 0603, T=0,8mm; Internal_Part_Number: MCD-00638; Manufacturer_Part_Number: CC0603JRNPO9BN200; Manufacturer: YAGEO; Provided_By: Subcon; Initial_Board_Reference: MB1319; Status: Released; Part_Type: Capacitor; Package: C0603; ComponentLink1Description: Datasheet; ECCN_US: n/a; ECCN_EU: n/a; ComponentLink1URL: http://tunmcdsvn.tun.st.com/Component_Datasheet_Library/Trunk/Capacitors/Yageo_Capacitor_NP0_16V-to-50V
footprint C0603
pins: 1, 2

## MCD-00674
designator C?, comment value 6.8pF  (hidden comment: Capacitor)
Capacitor, MLCC, 6.8pF, 50V, NPO, +-0.25pF, 0402, T=0.5mm; Internal_Part_Number: MCD-00674; Manufacturer_Part_Number: CC0402CRNPO9BN6R8; Manufacturer: YAGEO; Provided_By: Subcon; Initial_Board_Reference: MB1319; Status: Released; Part_Type: Capacitor; Package: C0402; ComponentLink1Description: Datasheet; ComponentLink1URL: http://tunmcdsvn.tun.st.com/Component_Datasheet_Library/Trunk/Capacitors/Yageo_Capacitor_NP0_16V-to-50V
footprint C0402
pins: 1, 2

## MCD-00683
designator JP?  value Shunt Fitted
Header, 2x1, 2,54mm, VR, TH, Height 5.84mm/2.54mm - Shunt Fitted by default; Internal_Part_Number: MCD-00683; Part_Type: Connector; Manufacturer_Part_Number: TSW-102-07-x-S; Manufacturer: SAMTEC; Provided_By: Subcon; Initial_Board_Reference: MB1331; Status: Released; ComponentLink1Description: Datasheet; ComponentLink1URL: http://tunmcdsvn.tun.st.com/Component_Datasheet_Library/Trunk/Connectors/Samtec_TSW-HTSW-series; ECCN_US: n/a; ECCN_EU: n/a; Remark: Shunt Fitted
footprint CON_SAMTEC_TSW-102-07-G-S
pins: 1 COMMON, 2 NO

## MCD-00684
designator JP?  value Shunt Fitted 1-2
Header, 3x1, 2,54mm, VR, TH, Height 5.84mm/2.54mm - Shunt Fitted 1-2 by default; Internal_Part_Number: MCD-00684; Part_Type: Connector; Manufacturer_Part_Number: TSW-103-07-F-S; Manufacturer: SAMTEC; Provided_By: Subcon; Initial_Board_Reference: MB1331; Status: Released; ComponentLink1Description: Datasheet; ComponentLink1URL: http://tunmcdsvn.tun.st.com/Component_Datasheet_Library/Trunk/Connectors/Samtec_TSW-HTSW-series; ECCN_US: n/a; ECCN_EU: n/a; Remark: Shunt Fitted 1-2
footprint CON_SAMTEC_TSW-103-07-F-S
pins: 1, 2, 3

## MCD-01015
designator HW?  value LQFP144_socket  (mechanical)
Yamaichi socket for LQFP144, with positioning pins.; Internal_Part_Number: MCD-01015; Part_Type: Misc; Manufacturer_Part_Number: IC149-144-145-B5; Provided_By: Subcon; Initial_Board_Reference: MB1361; Remark: No footprint, mechanical part for BOM; Status: Checked; Manufacturer: YAMAICHI; ComponentLink1Description: Datasheet; ComponentLink1URL: http://tunmcdsvn.tun.st.com/Component_Datasheet_Library/Trunk/Misc/Yamaichi_LQFP_socket_IC149_144_145_B5; ECCN_US: n/a; ECCN_EU: n/a

## MCD-01037
designator CN?  value Socket 8x2_N144_ARD
Socket, 8x2, 2.54mm, VR, TH, Height 8.51mm/10mm, Low insertion force.; Internal_Part_Number: MCD-01037; Part_Type: Connector; Manufacturer_Part_Number: SSW-108-23-x-D; Manufacturer: SAMTEC; Provided_By: Subcon; Initial_Board_Reference: MB1361; Remark: Socket dedicated to Arduino+ZIO connector on NUCLEO144; Status: Checked; ComponentLink1Description: Datasheet; ComponentLink1URL: http://tunmcdsvn.tun.st.com/Component_Datasheet_Library/Trunk/Connectors/Samtec_SSW-SSQ-series; ECCN_US: n/a; ECCN_EU: n/a
footprint CON_SAMTEC_SSW-108-23-X-D_N144_ARD
pins: 1, 2, 3, 4, 5, 6, 7, 8, 9, 10, 11, 12, 13, 14, 15, 16
text: ARD; ZIO

## MCD-01039
designator CN?  value Socket 10x2_N144_ARD
Socket, 10x2, 2.54mm, VR, TH, Height 8.51mm/10mm, Low insertion force.; Internal_Part_Number: MCD-01039; Part_Type: Connector; Manufacturer_Part_Number: SSW-110-23-x-D; Manufacturer: SAMTEC; Provided_By: Subcon; Initial_Board_Reference: MB1361; Remark: Socket dedicated to Arduino+ZIO connector on NUCLEO144; Status: Checked; ComponentLink1Description: Datasheet; ComponentLink1URL: http://tunmcdsvn.tun.st.com/Component_Datasheet_Library/Trunk/Connectors/Samtec_SSW-SSQ-series; ECCN_US: n/a; ECCN_EU: n/a
footprint CON_SAMTEC_SSW-110-23-X-D_N144_ARD
pins: 1, 2, 3, 4, 5, 6, 7, 8, 9, 10, 11, 12, 13, 14, 15, 16, 17, 18, 19, 20
text: ZIO; ARD

## MCD-01040
designator CN?  value Socket 15x2_N144_ARD
Socket, 15x2, 2.54mm, VR, TH, Height 8.51mm/10mm, Low insertion force.; Internal_Part_Number: MCD-01040; Part_Type: Connector; Manufacturer_Part_Number: SSW-115-23-x-D; Manufacturer: SAMTEC; Provided_By: Subcon; Initial_Board_Reference: MB1361; Remark: Socket dedicated to Arduino+ZIO connector on NUCLEO144; Status: Checked; ComponentLink1Description: Datasheet; ComponentLink1URL: http://tunmcdsvn.tun.st.com/Component_Datasheet_Library/Trunk/Connectors/Samtec_SSW-SSQ-series; ECCN_US: n/a; ECCN_EU: n/a
footprint CON_SAMTEC_SSW-115-23-X-D_N144_ARD
pins: 1, 2, 3, 4, 5, 6, 7, 8, 9, 10, 11, 12, 13, 14, 15, 16, 17, 18, 19, 20, 21, 22, 23, 24, 25, 26, 27, 28, 29, 30
text: ARD; ZIO

## MCD-01041
designator CN?  value Socket 17x2_N144_ARD
Socket, 17x2, 2.54mm, VR, TH, Height 8.51mm/10mm, Low insertion force; Internal_Part_Number: MCD-01041; Part_Type: Connector; Manufacturer_Part_Number: SSW-117-23-x-D; Manufacturer: SAMTEC; Provided_By: Subcon; Initial_Board_Reference: MB1361; Remark: Socket dedicated to Arduino+ZIO connector on NUCLEO144; Status: Checked; ComponentLink1Description: Datasheet; ComponentLink1URL: http://tunmcdsvn.tun.st.com/Component_Datasheet_Library/Trunk/Connectors/Samtec_SSW-SSQ-series; ECCN_US: n/a; ECCN_EU: n/a
footprint CON_SAMTEC_SSW-117-23-X-D_N144_ARD
pins: 1, 2, 3, 4, 5, 6, 7, 8, 9, 10, 11, 12, 13, 14, 15, 16, 17, 18, 19, 20, 21, 22, 23, 24, 25, 26, 27, 28, 29, 30, 31, 32, 33, 34
text: ZIO; ARD

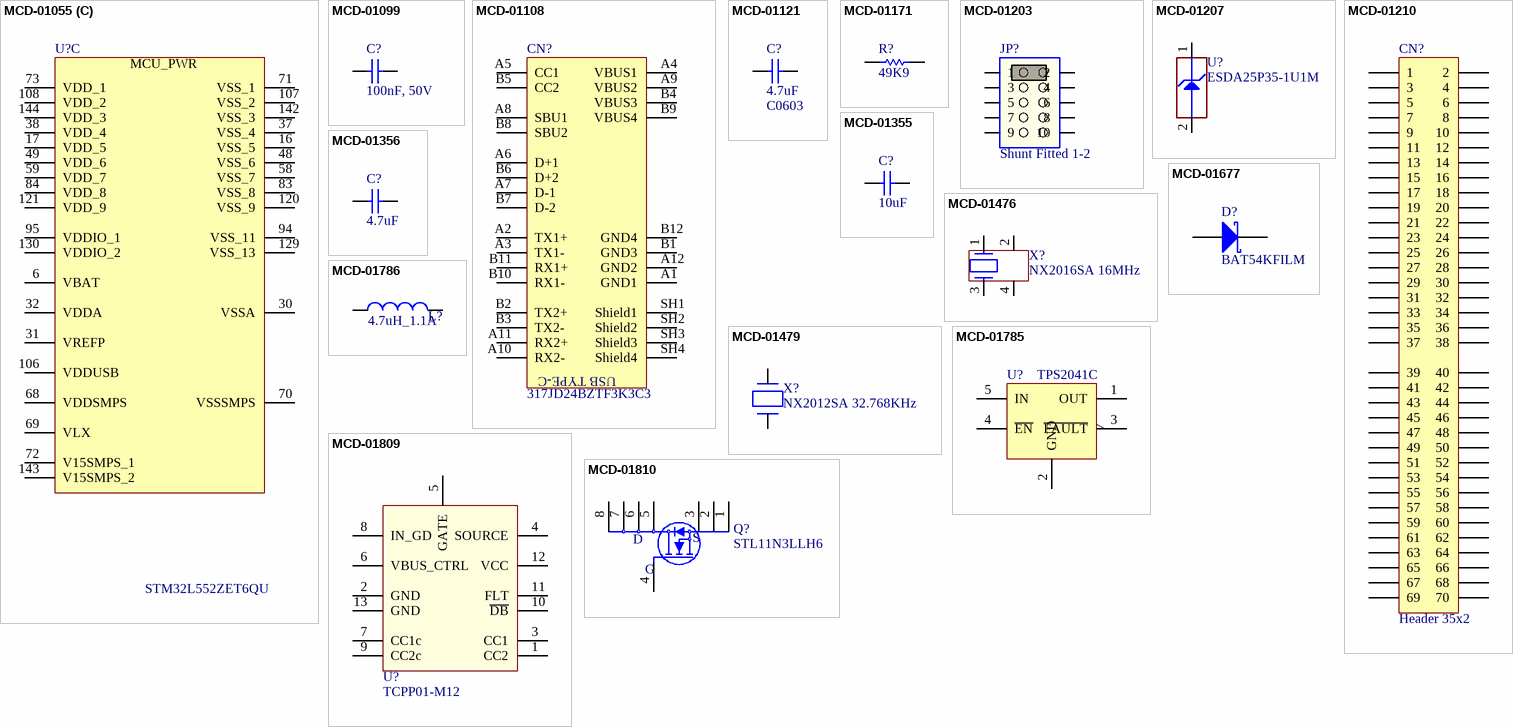
[diagram p2: symbols MCD-01055 to MCD-01810]

## MCD-01055
designator U?, comment STM32L552ZET6QU
STM32L552ZET6Q MCU,LQFP144 20x20, 0.5, no AES, Q for Int SMPS; Internal_Part_Number: MCD-01055; Part_Type: IC; Manufacturer: STMICROELECTRONICS; BMS_Part_Number: 9175310; ECCN_US: 3A991A2; ECCN_EU: NEC; Provided_By: SUBCO with ST control; Value: STM32L552ZET6QU; Status: Released; Manufacturer_Part_Number: STM32L552ZET6QU; Package: LQFP144; ComponentLink1Description: Datasheet; ComponentLink1URL: http://tunmcdsvn.tun.st.com/Component_Datasheet_Library/Trunk/IC/STM_STM32L552ZET6QU
footprint ICC_LQFP144_20X20_P050
part A pins: 7 PC13-WKUP2, 8 PC14-OSC32_IN, 9 PC15-OSC32_OUT, 23 PH0-OSC_IN, 24 PH1-OSC_OUT, 25 NRST, 26 PC0, 27 PC1, 28 PC2, 29 PC3, 33 PA0-WKUP0, 34 PA1, 35 PA2, 36 PA3, 39 PA4, 40 PA5, 41 PA6, 42 PA7, 43 PB0, 44 PB1, 45 PB2, 66 PB10, 67 PB11, 74 PB13, 75 PB14, 76 PB15, 96 PC6, 97 PC7, 98 PC8, 99 PC9, 100 PA8, 101 PA9, 102 PA10, 103 PA11, 104 PA12, 105 PA13, 109 PA14, 110 PA15, 111 PC10, 112 PC11, 113 PC12, 132 PB3, 133 PB4, 134 PB5, 135 PB6, 136 PB7, 137 PH3_BOOT0, 138 PB8, 139 PB9
part B pins: 1 PE2, 2 PE3, 3 PE4, 4 PE5, 5 PE6, 10 PF0, 11 PF1, 12 PF2, 13 PF3, 14 PF4, 15 PF5, 18 PF6, 19 PF7, 20 PF8, 21 PF9, 22 PF10, 46 PF11, 47 PF12, 50 PF13, 51 PF14, 52 PF15, 53 PG0, 54 PG1, 55 PE7, 56 PE8, 57 PE9, 60 PE10, 61 PE11, 62 PE12, 63 PE13, 64 PE14, 65 PE15, 77 PD8, 78 PD9, 79 PD10, 80 PD11, 81 PD12, 82 PD13, 85 PD14, 86 PD15, 87 PG2, 88 PG3, 89 PG4, 90 PG5, 91 PG6, 92 PG7, 93 PG8, 114 PD0, 115 PD1, 116 PD2, 117 PD3, 118 PD4, 119 PD5, 122 PD6, 123 PD7, 124 PG9, 125 PG10, 126 PG12, 127 PG13, 128 PG14, 131 PG15, 140 PE0, 141 PE1
part C pins: 6 VBAT, 16 VSS_5, 17 VDD_5, 30 VSSA, 31 VREFP, 32 VDDA, 37 VSS_4, 38 VDD_4, 48 VSS_6, 49 VDD_6, 58 VSS_7, 59 VDD_7, 68 VDDSMPS, 69 VLX, 70 VSSSMPS, 71 VSS_1, 72 V15SMPS_1, 73 VDD_1, 83 VSS_8, 84 VDD_8, 94 VSS_11, 95 VDDIO_1, 106 VDDUSB, 107 VSS_2, 108 VDD_2, 120 VSS_9, 121 VDD_9, 129 VSS_13, 130 VDDIO_2, 142 VSS_3, 143 V15SMPS_2, 144 VDD_3
part A text: MCU_IOs (A,B,C); MCU CLK & RST
part B text: MCU_IOs (D,E,F,G)
part C text: MCU_PWR

## MCD-01099
designator C?, comment value 100nF, 50V  (hidden comment: Capacitor)
Capacitor,100nF,50V,X7R,10%,0603; Internal_Part_Number: MCD-01099; Manufacturer_Part_Number: CC0603KRX7R9BB104; Manufacturer: YAGEO; Provided_By: SUBCO; Status: Released; Part_Type: Capacitor; Package: C0603; ComponentLink1Description: Datasheet; ComponentLink1URL: http://tunmcdsvn.tun.st.com/Component_Datasheet_Library/Trunk/Capacitors/Yageo_Multilayer_Capacitor_X7R_series_100pF_to_22uF/Yageo_Mutilayer_Capacitor_X7R_100pF_to_22uF.pdf; ECCN_US: N/A; ECCN_EU: N/A
footprint C0603
pins: 1, 2

## MCD-01108
designator CN?, comment value 317JD24BZTF3K3C3  (hidden comment: USB_TYPE_C_Receptacle_317JD24BZTF3K3C3)
USB tyce C certified receptacle for 1.6mm pcb height; Internal_Part_Number: MCD-01108; Part_Type: Connector; Manufacturer: CHANT SINCERE (COXOC); Provided_By: SUBCO; Status: Released; Manufacturer_Part_Number: 317JD24BZTF3K3C3; ComponentLink1Description: Datasheet; ComponentLink1URL: http://tunmcdsvn.tun.st.com/Component_Datasheet_Library/Trunk/Connectors/Chant%20sincere_usb%20type%20C%20connector%20317JD24BZTF3K3C3; ECCN_US: n/a; ECCN_EU: n/a
footprint CON_USB-TYPEC_COXOC_317JD24BZTF3K3C3
pins: A1 GND1, A2 TX1+, A3 TX1-, A4 VBUS1, A5 CC1, A6 D+1, A7 D-1, A8 SBU1, A9 VBUS2, A10 RX2-, A11 RX2+, A12 GND2, B1 GND3, B2 TX2+, B3 TX2-, B4 VBUS3, B5 CC2, B6 D+2, B7 D-2, B8 SBU2, B9 VBUS4, B10 RX1-, B11 RX1+, B12 GND4, SH1 Shield1, SH2 Shield2, SH3 Shield3, SH4 Shield4
text: USB TYPE-C

## MCD-01121
designator C?  value 4.7uF  Package: C0603
Capacitor, MLCC, 4.7µF, 10V, X5R, 20%, 0603, T=0,8mm; Internal_Part_Number: MCD-01121; Manufacturer_Part_Number: GRM188R61A475ME15; Manufacturer: MURATA; ECCN_US: EAR99; ECCN_EU: NEC; Provided_By: Subcon; Initial_Board_Reference: MB1361; Status: Released; Part_Type: Capacitor; ComponentLink1Description: Datasheet; ComponentLink1URL: http://tunmcdsvn.tun.st.com/Component_Datasheet_Library/Trunk/Capacitors/Murata_Capacitor_GR_series
footprint C0603
pins: 1, 2

## MCD-01171
designator R?  value 49K9
Resistor,49K9,0603,1%; Internal_Part_Number: MCD-01171; Manufacturer_Part_Number: RC0603FR-0749K9L; Manufacturer: YAGEO; Provided_By: Subcon; Initial_Board_Reference: MB1397; Status: Released; Part_Type: Resistor; Package: R0603; ComponentLink1Description: Datasheet; ComponentLink1URL: http://tunmcdsvn.tun.st.com/Component_Datasheet_Library/Trunk/Resistors/Yageo_Resistor_RC0603-series/; ECCN_US: n/a; ECCN_EU: n/a
footprint R0603
pins: 1, 2

## MCD-01203
designator JP?  value Shunt Fitted 1-2
Header, 5x2, 2,54mm, VR, TH, Height 5.84mm/2.54mm - Shunt Fitted 1-2; Internal_Part_Number: MCD-01203; Part_Type: Connector; Manufacturer_Part_Number: TSW-105-07-x-D; Manufacturer: SAMTEC; Provided_By: Subcon; Initial_Board_Reference: Mb1372; Status: Checked; ComponentLink1Description: Datasheet; ComponentLink1URL: http://tunmcdsvn.tun.st.com/Component_Datasheet_Library/Trunk/Connectors/Samtec_TSW-HTSW-series; ECCN_US: n/a; ECCN_EU: n/a
footprint CON_SAMTEC_TSW-105-07-X-D
pins: 1, 2, 3, 4, 5, 6, 7, 8, 9, 10

## MCD-01207
designator U?, comment value ESDA25P35-1U1M  (hidden comment: ESD-TRANSIL)
High power Transient voltage suppressor:25V/35A EOS and ESD transients protection.; Internal_Part_Number: MCD-01207; Part_Type: Diode; Manufacturer: STMICROELECTRONICS; BMS_Part_Number: 9179045; ECCN_US: EAR99; ECCN_EU: NEC; Provided_By: SUBCO with ST control; Status: Checked; Manufacturer_Part_Number: ESDA25P35-1U1M; Package: QFN1610; ComponentLink1Description: Datasheet; ComponentLink1URL: http://tunmcdsvn.tun.st.com/Component_Datasheet_Library/Trunk/Diodes/STM_ESD_ESDA25P35-1U1M
footprint ESD_QFN1610_2N_1K_2A
pins: 1 IO1, 2 GND

## MCD-01210
designator CN?  value Header 35x2
Header, 35x2, 2,54mm, VR, TH, Height 5.84mm/2.54mm; Internal_Part_Number: MCD-01210; Part_Type: Connector; Manufacturer_Part_Number: TSW-135-07-x-D; Manufacturer: SAMTEC; Provided_By: Subcon; Initial_Board_Reference: MB1361; Status: Checked; ComponentLink1Description: Datasheet; ComponentLink1URL: http://tunmcdsvn.tun.st.com/Component_Datasheet_Library/Trunk/Connectors/Samtec_TSW-HTSW-series; ECCN_US: n/a; ECCN_EU: n/a
footprint CON_SAMTEC_TSW-135-07-X-D
pins: 1, 2, 3, 4, 5, 6, 7, 8, 9, 10, 11, 12, 13, 14, 15, 16, 17, 18, 19, 20, 21, 22, 23, 24, 25, 26, 27, 28, 29, 30, 31, 32, 33, 34, 35, 36, 37, 38, 39, 40, 41, 42, 43, 44, 45, 46, 47, 48, 49, 50, 51, 52, 53, 54, 55, 56, 57, 58, 59, 60, 61, 62, 63, 64, 65, 66, 67, 68, 69, 70
1 alternate drawing of the same symbol

## MCD-01355
designator C?  value 10uF
Capacitor, MLCC, 10uF, 4V, X5R, 20%, 0402, T=0,5mm; Internal_Part_Number: MCD-01355; Manufacturer_Part_Number: GRM155R60G106ME44; Manufacturer: MURATA; ECCN_US: EAR99; ECCN_EU: NEC; Provided_By: Subcon; Initial_Board_Reference: MB1372; Status: Checked; Part_Type: Capacitor; Package: C0402; ComponentLink1Description: Datasheet; ComponentLink1URL: http://tunmcdsvn.tun.st.com/Component_Datasheet_Library/Trunk/Capacitors/Murata_Capacitor_GR_series
footprint C0402
pins: 1, 2

## MCD-01356
designator C?  value 4.7uF
Capacitor, MLCC, 4.7uF, 6V3, X5R, 20%, 0402, T=0,5mm; Internal_Part_Number: MCD-01356; Manufacturer_Part_Number: GRM155R60J475ME47; Manufacturer: MURATA; ECCN_US: EAR99; ECCN_EU: NEC; Provided_By: Subcon; Initial_Board_Reference: MB1372; Status: Checked; Part_Type: Capacitor; Package: C0402; ComponentLink1Description: Datasheet; ComponentLink1URL: http://tunmcdsvn.tun.st.com/Component_Datasheet_Library/Trunk/Capacitors/Murata_Capacitor_GR_series
footprint C0402
pins: 1, 2

## MCD-01476
designator X?, comment value NX2016SA 16MHz  (hidden comment: XTAL_4_PINS)
Crystal 16 MHz, 8pF, -+20 PPM, R=200Ω, SMD; Internal_Part_Number: MCD-01476; Part_Type: Crystal_Osc; Manufacturer_Part_Number: NX2016SA 16 MHz EXS00A-CS07826; Manufacturer: NDK; Provided_By: ST; Initial_Board_Reference: MB1373; Item Type: Item; Path: ws/MCD_ApplicationBoards/Lists/MCDPARTSdatabase; Status: Symbol available; Package: NX2016SA; ComponentLink1Description: Datasheet; ComponentLink1URL: http://tunmcdsvn.tun.st.com/Component_Datasheet_Library/Trunk/Crystal_Osc/NDK_NX2016SA 16MHz EXS00A-CS07826 (EXS10B-21237)
footprint CRY_NX2016SA_4P
pins: 1, 2, 3, 4

## MCD-01479
designator X?, comment value NX2012SA 32.768KHz  (hidden comment: XTAL_2_PINS)
Crystal 32.768kHz, 6pF, -+20PPM, R=80K, SMD; Internal_Part_Number: MCD-01479; Part_Type: Crystal_Osc; Manufacturer_Part_Number: NX2012SA 32.768KHz EXS00A-MU00527; Manufacturer: NDK; Provided_By: SUBCO; Initial_Board_Reference: MB1373; Item Type: Item; Path: ws/MCD_ApplicationBoards/Lists/MCDPARTSdatabase; Status: Checked; Package: NX2012SA; ComponentLink1Description: Datasheet; ComponentLink1URL: http://tunmcdsvn.tun.st.com/Component_Datasheet_Library/Trunk/Crystal_Osc/NDK_NX2012SA 32.768KHz EXS00A-MU00527
footprint CRY_NX2012SA_2P
pins: 1 X1, 2 X2

## MCD-01677
designator D?, comment value BAT54KFILM  (hidden comment: SCHOTTKY_1A_2K)
Small signal Schottky diodes; Internal_Part_Number: MCD-01677; Part_Type: Diode; Manufacturer: STMICROELECTRONICS; ECCN_US: EAR99; ECCN_EU: NEC; Provided_By: SUBCO; Status: Checked; Manufacturer_Part_Number: BAT54KFILM; Package: SOD-523; ComponentLink1Description: Datasheet; ComponentLink1URL: http://tunmcdsvn.tun.st.com/Component_Datasheet_Library/Trunk/Diodes/STM_SCHOTTKY_DOUBLE_BAT54SWFILM/STM_SCHOTTKY_DOUBLE_BAT54SWFILM.pdf
footprint DIO_SOD523_1A_2K
pins: 1 A, 2 K